# Altium footprint library 接口.PCBLIB: 266 footprints (part 17 of 17)
Each footprint in its own frame and in the unit in brackets; x right, y up, seen from the top. Pads: shape width x height; smd on the part's side, far side on the other; paste and mask are expansions set on the pad; w line width, h text height; cw(c..) or ccw(c..) is an arc to the next point about the centre after c.
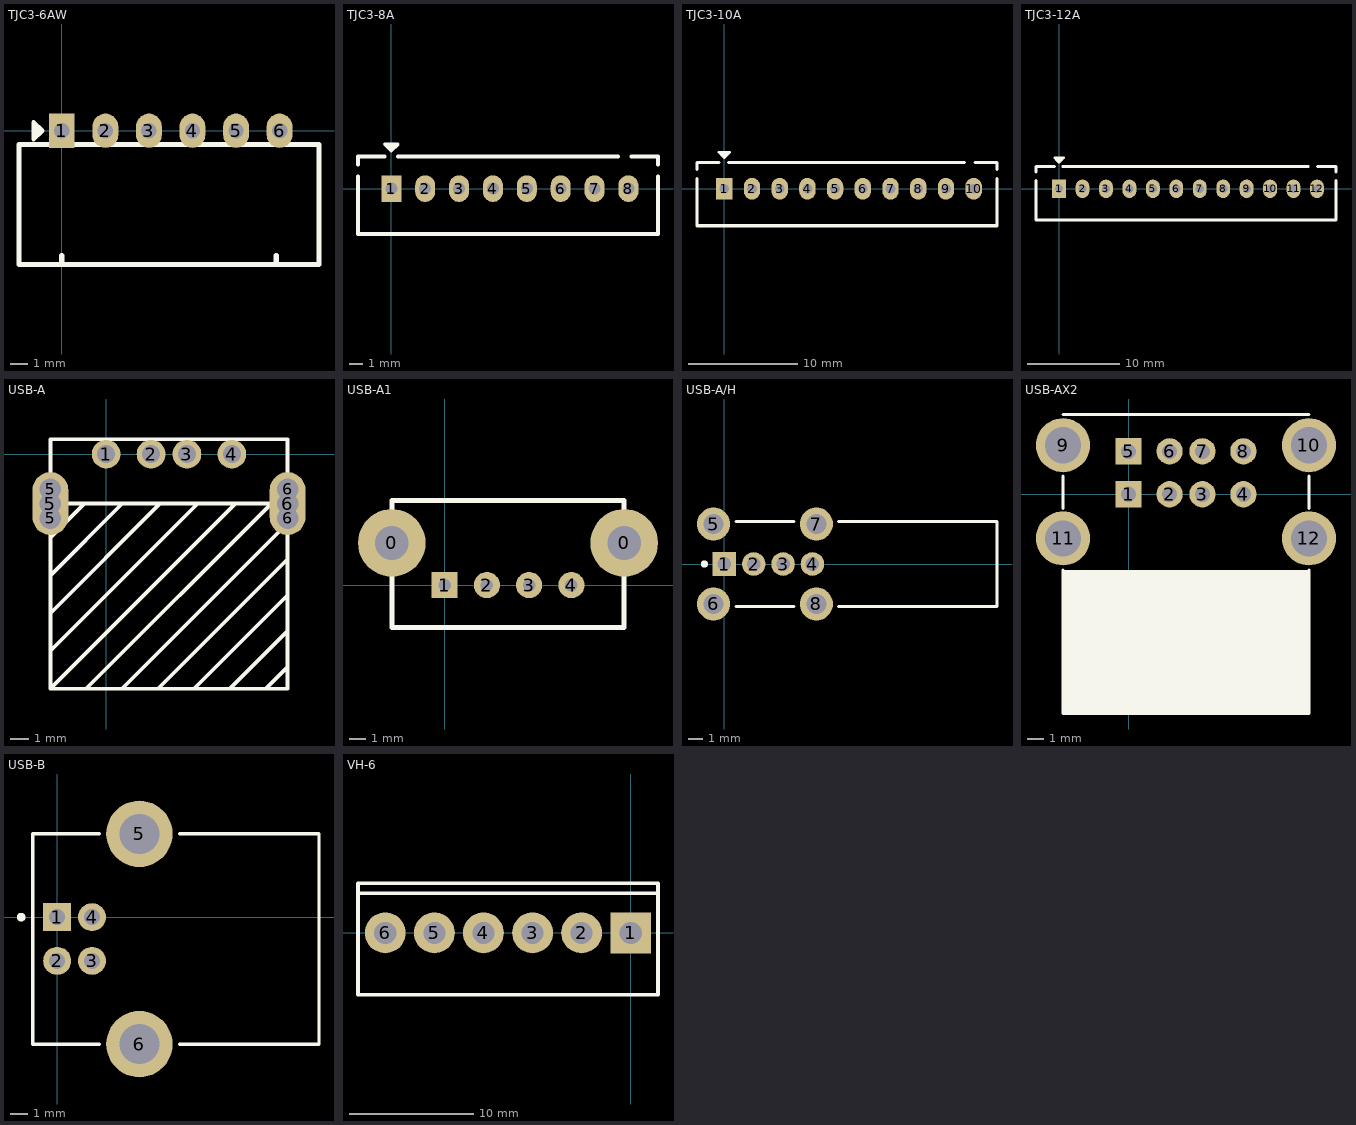
[diagram p16: the footprints below, top view; thin cyan lines are the x and y axes]

## TJC3-6AW [mm]
pads (6):
  rect 1.5x2 hole 0.9: 1(0,0)
  oval 1.5x2 hole 0.9: 2(2.54,0) 3(5.08,0) 4(7.62,0) 5(10.16,0) 6(12.7,0)
TopOverlay:
  lines w0.254: -1.456,-0.306 -1.456,0.306 -1.65,0.5 ; -1.65,0.5 -1.15,0 -1.65,-0.5 -1.65,0.5
  lines w0.305: 0,-7.8 0,-7.3 ; 12.5,-7.8 12.5,-7.3 ; -2.5,-7.8 15,-7.8 15,-0.8 -2.5,-0.8 -2.5,-7.8

## TJC3-8A [mm]
pads (8):
  rect 1.5x2 hole 0.9: 1(0,0)
  oval 1.5x2 hole 0.9: 2(2.54,0) 3(5.08,0) 4(7.62,0) 5(10.16,0) 6(12.7,0) 7(15.24,0) 8(17.78,0)
TopOverlay:
  lines w0.254: -0.306,3.156 0.306,3.156 0.5,3.35 ; 0.5,3.35 0,2.85 -0.5,3.35 0.5,3.35
  lines w0.305: -2.5,0.9 -2.5,-3.4 20,-3.4 20,0.9 ; -2.5,1.8 -2.5,2.4 -0.5,2.4 ; 0.5,2.4 17,2.4 ; 18,2.4 20,2.4 20,1.8

## TJC3-10A [mm]
pads (10):
  rect 1.5x2 hole 0.9: 1(0,0)
  oval 1.5x2 hole 0.9: 2(2.54,0) 3(5.08,0) 4(7.62,0) 5(10.16,0) 6(12.7,0) 7(15.24,0) 8(17.78,0) 9(20.32,0) 10(22.86,0)
TopOverlay:
  lines w0.254: -0.306,3.156 0.306,3.156 0.5,3.35 ; 0.5,3.35 0,2.85 -0.5,3.35 0.5,3.35
  lines w0.305: -2.5,0.9 -2.5,-3.4 25,-3.4 25,0.9 ; -2.5,1.8 -2.5,2.4 -0.5,2.4 ; 0.4,2.4 22,2.4 ; 23,2.4 25,2.4 25,1.8

## TJC3-12A [mm]
pads (12):
  rect 1.5x2 hole 0.9: 1(0,0)
  oval 1.5x2 hole 0.9: 2(2.54,0) 3(5.08,0) 4(7.62,0) 5(10.16,0) 6(12.7,0) 7(15.24,0) 8(17.78,0) 9(20.32,0) 10(22.86,0) 11(25.4,0) 12(27.94,0)
TopOverlay:
  lines w0.254: -0.306,3.156 0.306,3.156 0.5,3.35 ; 0.5,3.35 0,2.85 -0.5,3.35 0.5,3.35
  lines w0.305: -2.5,0.9 -2.5,-3.4 30,-3.4 30,0.9 ; -2.5,1.8 -2.5,2.4 -0.5,2.4 ; 0.4,2.4 27,2.4 5.4,2.4 ; 28,2.4 30,2.4 30,1.8

## USB-A [mm]
pads (10):
  round 1.6 hole 1: 1(0,0) 2(2.5,0) 3(4.5,0) 4(7,0)
  round 1.2 hole 1.2: 5(-3.1,-3.56) 5(-3.1,-1.96) 6(10.1,-3.56) 6(10.1,-1.96)
  oval 2x3.5 hole 1.2: 5(-3.1,-2.75) 6(10.1,-2.75)
TopOverlay:
  lines w0.203: -3.1,-10.95 5.1,-2.75 ; -3.1,-8.85 3,-2.75 ; -3.1,-6.75 0.9,-2.75 ; -3.1,-4.65 -1.2,-2.75 ; -3,-2.75 10,-2.75 ; -1.1,-13.05 9.2,-2.75 ; 0.9,-13.05 10.1,-3.85 ; 2.9,-13.05 10.1,-5.85 ; 4.9,-13.05 10.1,-7.85 ; 6.9,-13.05 10.1,-9.85 ; 7.2,-2.75 -3.1,-13.05 ; 8.9,-13.05 10.1,-11.85 ; -3.1,-13.05 10.1,-13.05 10.1,0.82 -3.1,0.82 -3.1,-13.05

## USB-A1 [mil]
pads (6):
  round 160 hole 80: 0(-125,100) 0(425,100)
  rect 62x62 hole 30: 1(0,0)
  round 62 hole 30: 2(100,0) 3(200,0) 4(300,0)
TopOverlay:
  lines w12: -125,-100 425,-100 425,200 -125,200 -125,-100

## USB-A/H [mm]
pads (8):
  rect 1.6x1.6 hole 0.92: 1(0,0)
  round 1.6 hole 0.92: 2(2,0) 3(4,0) 4(6,0)
  round 2.25 hole 1.35: 5(-0.73,2.72) 6(-0.73,-2.72) 7(6.27,2.72) 8(6.27,-2.72)
TopOverlay:
  circle w0.25: c-1.35,0 r0.125
  lines w0.2: 0.787,-2.88 4.753,-2.88 ; 0.787,2.88 4.753,2.88 ; 7.787,-2.88 18.56,-2.88 18.56,2.88 7.787,2.88

## USB-AX2 [mm]
pads (12):
  rect 1.6x1.6 hole 0.92: 1(0,0) 5(0,2.62)
  round 1.6 hole 0.92: 2(2.5,0) 3(4.5,0) 4(7,0) 6(2.5,2.62) 7(4.5,2.62) 8(7,2.62)
  round 3.3 hole 2.2: 9(-4,2.99) 10(11,2.99) 11(-4,-2.69) 12(11,-2.69)
TopOverlay:
  rectangle: -4,-13.38 11,-4.63
  lines w0.178: -4,-4.63 -4,-13.38 11,-13.38 11,-4.63 ; -4,-0.88 -4,1.12 ; -4,4.87 11,4.87 ; 11,-0.88 11,1.12

## USB-B [mm]
pads (6):
  rect 1.6x1.6 hole 0.92: 1(0,0)
  round 1.6 hole 0.92: 2(0,-2.5) 3(2,-2.5) 4(2,0)
  round 3.8 hole 2.3: 5(4.71,4.77) 6(4.71,-7.27)
TopOverlay:
  circle w0.25: c-2.06,0 r0.125
  lines w0.2: 2.41,-7.27 -1.41,-7.27 -1.41,4.77 2.41,4.77 ; 7.01,-7.27 14.99,-7.27 14.99,4.77 7.01,4.77

## VH-6 [mil]
height 574.8
pads (6):
  rect 130x130 hole 70: 1(0,0)
  round 130 hole 70: 2(-156,0) 3(-312,0) 4(-468,0) 5(-624,0) 6(-780,0)
TopOverlay:
  lines w12: -866.14,125.98 86.61,125.98 ; -866.61,-196.85 86.61,-196.85 86.61,157.48 -866.61,157.48 -866.61,-196.85